# EAGLE library part CTBOT_MCU_BRD (library ct-bot)
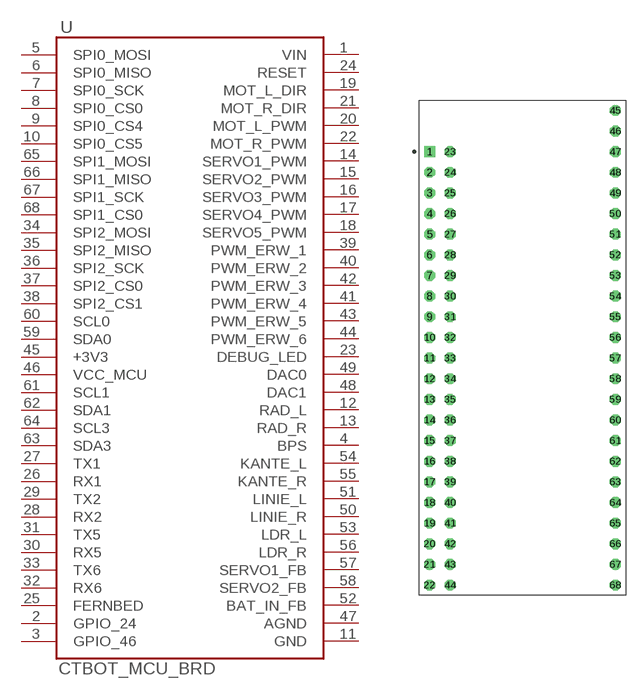
[diagram p21: symbol with the pads of DIP66; footprint DIP66]

Designator prefix -

## CTBOT_MCU_BRD  [DIP66]
1  VIN  pwr
2  GPIO_24
3  GPIO_46
4  BPS  in
5  SPI0_MOSI
6  SPI0_MISO
7  SPI0_SCK
8  SPI0_CS0
9  SPI0_CS4
10  SPI0_CS5
11  GND  pwr
12  RAD_L  in
13  RAD_R  in
14  SERVO1_PWM  out
15  SERVO2_PWM  out
16  SERVO3_PWM
17  SERVO4_PWM
18  SERVO5_PWM
19  MOT_L_DIR  out
20  MOT_L_PWM  out
21  MOT_R_DIR  out
22  MOT_R_PWM  out
23  DEBUG_LED  out
24  RESET  in
25  FERNBED
26  RX1  in
27  TX1  out
28  RX2  in
29  TX2  in
30  RX5  in
31  TX5  out
32  RX6  in
33  TX6  out
34  SPI2_MOSI
35  SPI2_MISO
36  SPI2_SCK
37  SPI2_CS0
38  SPI2_CS1
39  PWM_ERW_1
40  PWM_ERW_2
41  PWM_ERW_4
42  PWM_ERW_3
43  PWM_ERW_5
44  PWM_ERW_6
45  +3V3  pwr
46  VCC_MCU  pwr
47  AGND  pwr
48  DAC1
49  DAC0
50  LINIE_R  in
51  LINIE_L  in
52  BAT_IN_FB  in
53  LDR_L  in
54  KANTE_L  in
55  KANTE_R  in
56  LDR_R  in
57  SERVO1_FB  in
58  SERVO2_FB  in
59  SDA0
60  SCL0  out
61  SCL1  out
62  SDA1
63  SDA3
64  SCL3  out
65  SPI1_MOSI
66  SPI1_MISO
67  SPI1_SCK
68  SPI1_CS0

## Footprint DIP66 (pad centres in mm)
66-DIP, 2.54 mm (0.10 in) pitch
drill 0.743 pad 1.343 square: 1 -11.43,25.4
drill 0.743 pad 1.343 octagon: 2 -11.43,22.86; 3 -11.43,20.32; 4 -11.43,17.78; 5 -11.43,15.24; 6 -11.43,12.7; 7 -11.43,10.16; 8 -11.43,7.62; 9 -11.43,5.08; 10 -11.43,2.54; 11 -11.43,0; 12 -11.43,-2.54; 13 -11.43,-5.08; 14 -11.43,-7.62; 15 -11.43,-10.16; 16 -11.43,-12.7; 17 -11.43,-15.24; 18 -11.43,-17.78; 19 -11.43,-20.32; 20 -11.43,-22.86; 21 -11.43,-25.4; 22 -11.43,-27.94; 23 -8.89,25.4; 24 -8.89,22.86; 25 -8.89,20.32; 26 -8.89,17.78; 27 -8.89,15.24; 28 -8.89,12.7; 29 -8.89,10.16; 30 -8.89,7.62; 31 -8.89,5.08; 32 -8.89,2.54; 33 -8.89,0; 34 -8.89,-2.54; 35 -8.89,-5.08; 36 -8.89,-7.62; 37 -8.89,-10.16; 38 -8.89,-12.7; 39 -8.89,-15.24; 40 -8.89,-17.78; 41 -8.89,-20.32; 42 -8.89,-22.86; 43 -8.89,-25.4; 44 -8.89,-27.94; 45 11.43,30.48; 46 11.43,27.94; 47 11.43,25.4; 48 11.43,22.86; 49 11.43,20.32; 50 11.43,17.78; 51 11.43,15.24; 52 11.43,12.7; 53 11.43,10.16; 54 11.43,7.62; 55 11.43,5.08; 56 11.43,2.54; 57 11.43,0; 58 11.43,-2.54; 59 11.43,-5.08; 60 11.43,-7.62; 61 11.43,-10.16; 62 11.43,-12.7; 63 11.43,-15.24; 64 11.43,-17.78; 65 11.43,-20.32; 66 11.43,-22.86; 67 11.43,-25.4; 68 11.43,-27.94